# EAGLE library part BNO055 (library Other)
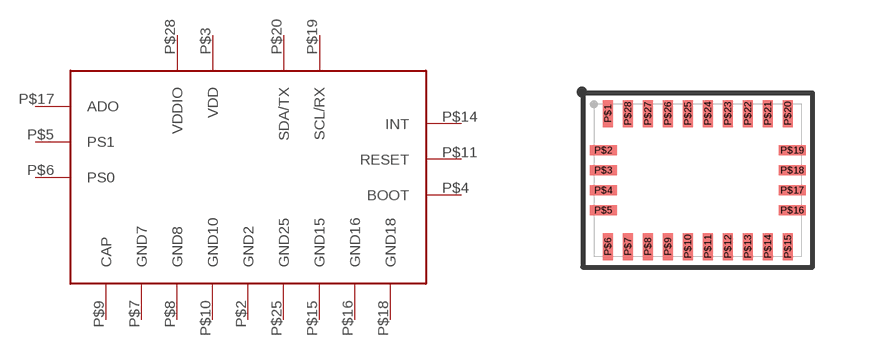
[diagram p5: symbol with the pads of LGA28; footprint LGA28]

Designator prefix -

## BNO055  [LGA28]
P$2  GND2
P$3  VDD
P$4  BOOT
P$5  PS1
P$6  PS0
P$7  GND7
P$8  GND8
P$9  CAP
P$10  GND10
P$11  RESET
P$14  INT
P$15  GND15
P$16  GND16
P$17  ADO
P$18  GND18
P$19  SCL/RX
P$20  SDA/TX
P$25  GND25
P$28  VDDIO

## Footprint LGA28 (pad centres in mm)
smd 0.25 x 0.675: P$1 -2.25,1.663; P$6 -2.25,-1.663; P$7 -1.75,-1.663; P$8 -1.25,-1.663; P$9 -0.75,-1.663; P$10 -0.25,-1.663; P$11 0.25,-1.663; P$12 0.75,-1.663; P$13 1.25,-1.663; P$14 1.75,-1.663; P$15 2.25,-1.663; P$20 2.25,1.663; P$21 1.75,1.663; P$22 1.25,1.663; P$23 0.75,1.663; P$24 0.25,1.663; P$25 -0.25,1.663; P$26 -0.75,1.663; P$27 -1.25,1.663; P$28 -1.75,1.663
smd 0.675 x 0.25: P$2 -2.362,0.75; P$3 -2.362,0.25; P$4 -2.362,-0.25; P$5 -2.362,-0.75; P$16 2.362,-0.75; P$17 2.362,-0.25; P$18 2.362,0.25; P$19 2.362,0.75